# EAGLE library part STM32F778AIY6TR (library circuit_tree)
IC
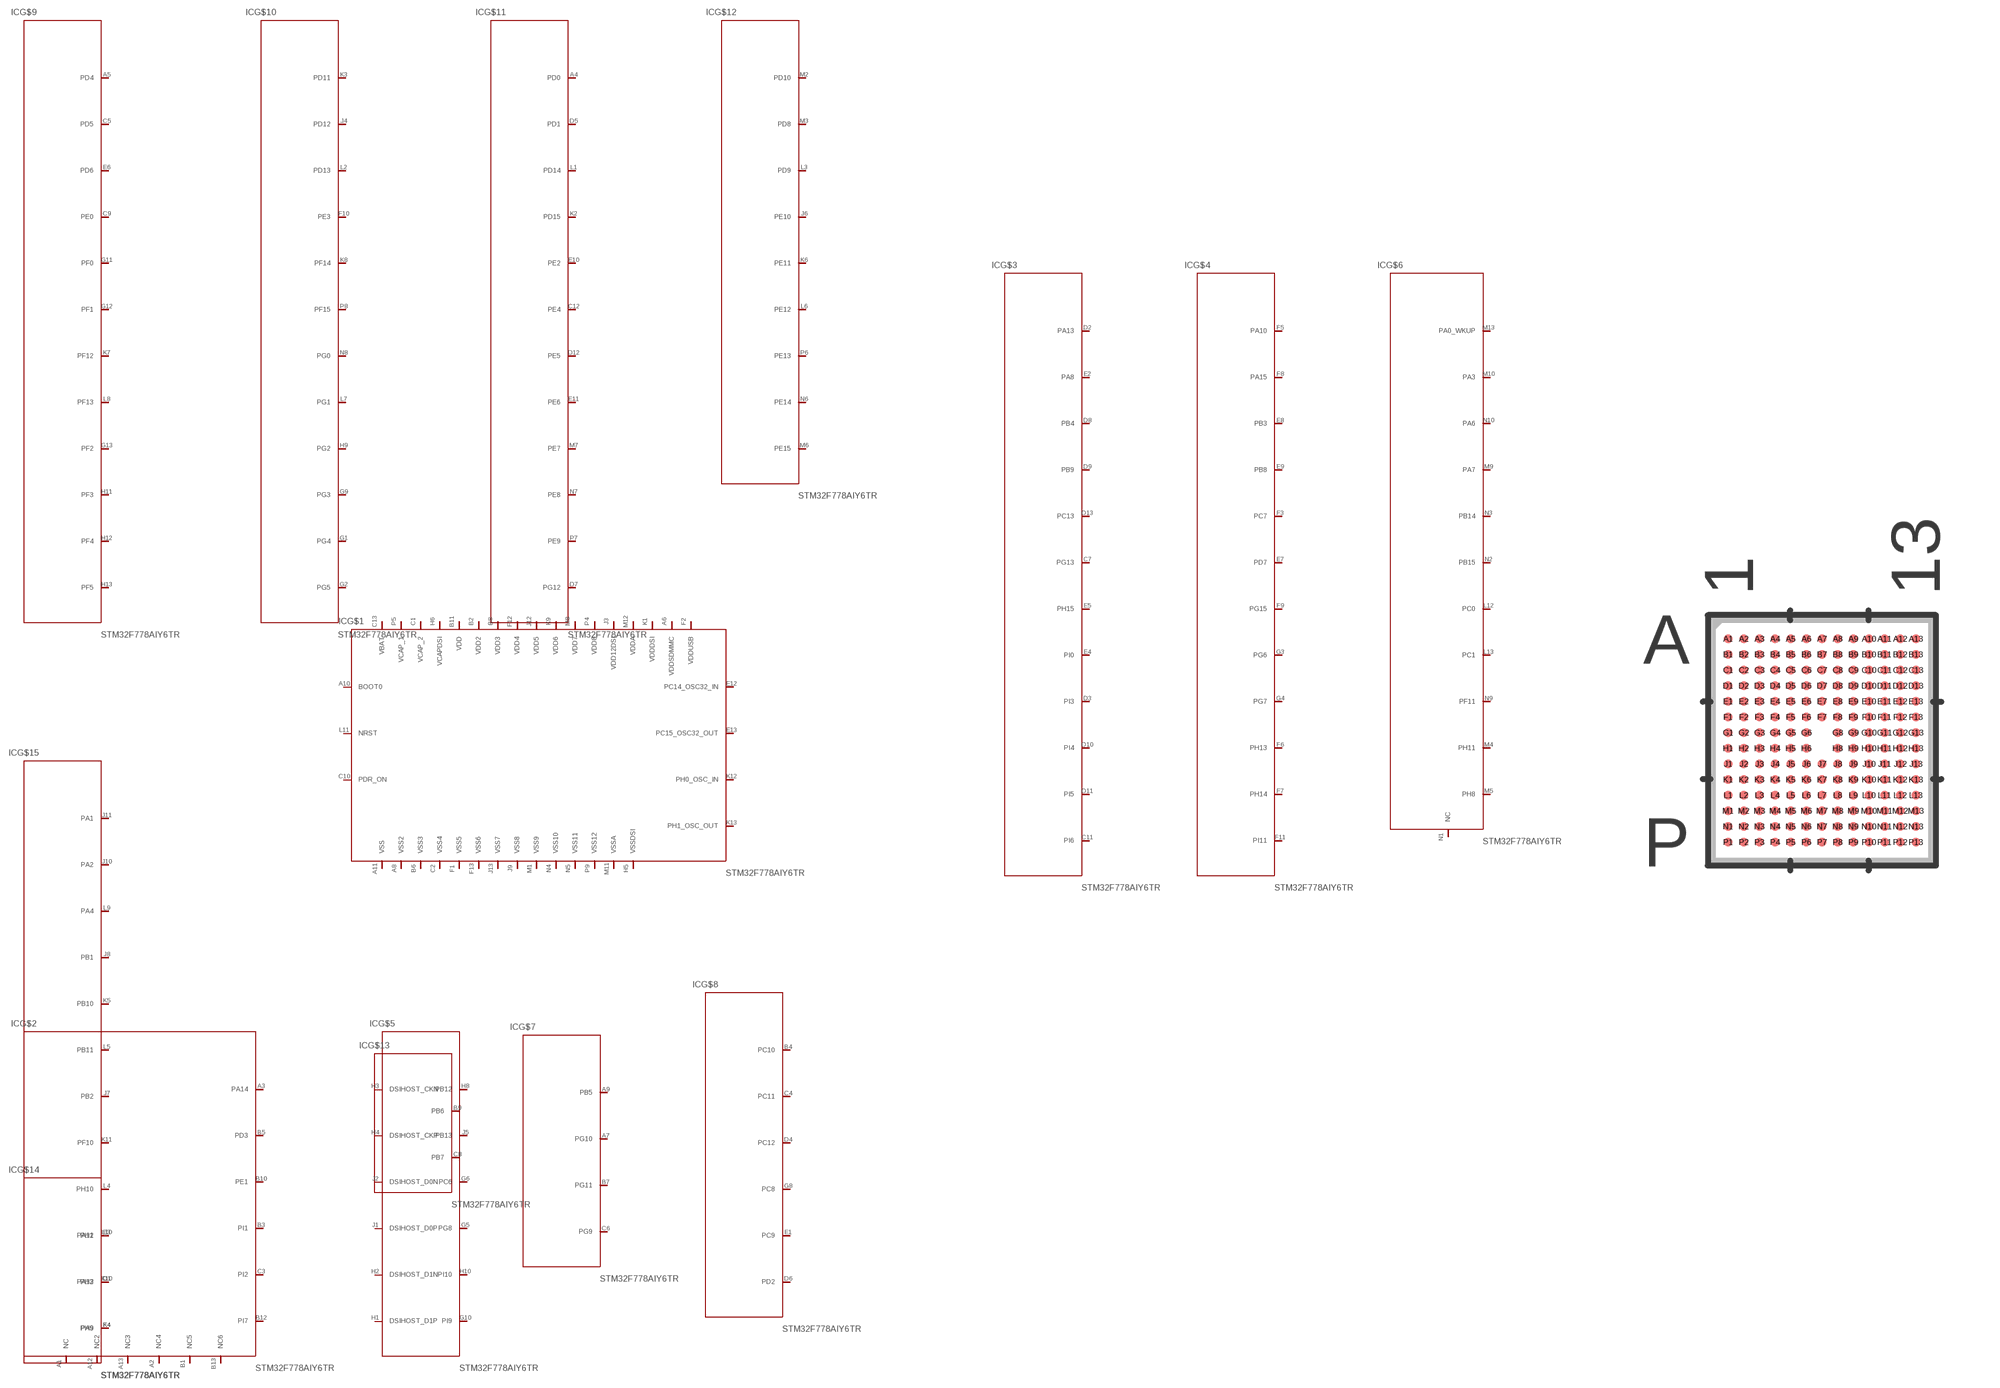
[diagram p6: symbol with the pads of WLCSP180; footprint WLCSP180]

Designator prefix IC; gates G$1=STM32F778AIY6TR G$2=STM32F778AIY6TR2 G$3=STM32F778AIY6TR3 G$4=STM32F778AIY6TR4 G$5=STM32F778AIY6TR5 G$6=STM32F778AIY6TR6 G$7=STM32F778AIY6TR7 G$8=STM32F778AIY6TR8 G$9=STM32F778AIY6TR9 G$10=STM32F778AIY6TR10 G$11=STM32F778AIY6TR11 G$12=STM32F778AIY6TR12 G$13=STM32F778AIY6TR13 G$14=STM32F778AIY6TR14 G$15=STM32F778AIY6TR15

## STM32F778AIY6TR  [WLCSP180]
A1  G$2:NC  pas
A2  G$2:NC4  pas
A3  G$2:PA14  pas
A4  G$11:PD0  pas
A5  G$9:PD4  pas
A6  G$1:VDDSDMMC  pas
A7  G$7:PG10  pas
A8  G$1:VSS2  pas
A9  G$7:PB5  pas
A10  G$1:BOOT0  pas
A11  G$1:VSS  pas
A12  G$2:NC2  pas
A13  G$2:NC3  pas
B1  G$2:NC5  pas
B2  G$1:VDD2  pas
B3  G$2:PI1  pas
B4  G$8:PC10  pas
B5  G$2:PD3  pas
B6  G$1:VSS3  pas
B7  G$7:PG11  pas
B8  G$1:VDD3  pas
B9  G$13:PB6  pas
B10  G$2:PE1  pas
B11  G$1:VDD  pas
B12  G$2:PI7  pas
B13  G$2:NC6  pas
C1  G$1:VCAP_2  pas
C2  G$1:VSS4  pas
C3  G$2:PI2  pas
C4  G$8:PC11  pas
C5  G$9:PD5  pas
C6  G$7:PG9  pas
C7  G$3:PG13  pas
C8  G$13:PB7  pas
C9  G$9:PE0  pas
C10  G$1:PDR_ON  pas
C11  G$3:PI6  pas
C12  G$11:PE4  pas
C13  G$1:VBAT  pas
D1  G$14:PA12  pas
D2  G$3:PA13  pas
D3  G$3:PI3  pas
D4  G$8:PC12  pas
D5  G$11:PD1  pas
D6  G$8:PD2  pas
D7  G$11:PG12  pas
D8  G$3:PB4  pas
D9  G$3:PB9  pas
D10  G$3:PI4  pas
D11  G$3:PI5  pas
D12  G$11:PE5  pas
D13  G$3:PC13  pas
E1  G$8:PC9  pas
E2  G$3:PA8  pas
E3  G$14:PA11  pas
E4  G$3:PI0  pas
E5  G$3:PH15  pas
E6  G$9:PD6  pas
E7  G$4:PD7  pas
E8  G$4:PB3  pas
E9  G$4:PB8  pas
E10  G$11:PE2  pas
E11  G$11:PE6  pas
E12  G$1:PC14_OSC32_IN  pas
E13  G$1:PC15_OSC32_OUT  pas
F1  G$1:VSS5  pas
F2  G$1:VDDUSB  pas
F3  G$4:PC7  pas
F4  G$14:PA9  pas
F5  G$4:PA10  pas
F6  G$4:PH13  pas
F7  G$4:PH14  pas
F8  G$4:PA15  pas
F9  G$4:PG15  pas
F10  G$10:PE3  pas
F11  G$4:PI11  pas
F12  G$1:VDD4  pas
F13  G$1:VSS6  pas
G1  G$10:PG4  pas
G2  G$10:PG5  pas
G3  G$4:PG6  pas
G4  G$4:PG7  pas
G5  G$5:PG8  pas
G6  G$5:PC6  pas
G8  G$8:PC8  pas
G9  G$10:PG3  pas
G10  G$5:PI9  pas
G11  G$9:PF0  pas
G12  G$9:PF1  pas
G13  G$9:PF2  pas
H1  G$5:DSIHOST_D1P  pas
H2  G$5:DSIHOST_D1N  pas
H3  G$5:DSIHOST_CKN  pas
H4  G$5:DSIHOST_CKP  pas
H5  G$1:VSSDSI  pas
H6  G$1:VCAPDSI  pas
H8  G$5:PB12  pas
H9  G$10:PG2  pas
H10  G$5:PI10  pas
H11  G$9:PF3  pas
H12  G$9:PF4  pas
H13  G$9:PF5  pas
J1  G$5:DSIHOST_D0P  pas
J2  G$5:DSIHOST_D0N  pas
J3  G$1:VDD12DSI  pas
J4  G$10:PD12  pas
J5  G$5:PB13  pas
J6  G$12:PE10  pas
J7  G$15:PB2  pas
J8  G$15:PB1  pas
J9  G$1:VSS8  pas
J10  G$15:PA2  pas
J11  G$15:PA1  pas
J12  G$1:VDD5  pas
J13  G$1:VSS7  pas
K1  G$1:VDDDSI  pas
K2  G$11:PD15  pas
K3  G$10:PD11  pas
K4  G$15:PH9  pas
K5  G$15:PB10  pas
K6  G$12:PE11  pas
K7  G$9:PF12  pas
K8  G$10:PF14  pas
K9  G$1:VDD6  pas
K10  G$15:PH3  pas
K11  G$15:PF10  pas
K12  G$1:PH0_OSC_IN  pas
K13  G$1:PH1_OSC_OUT  pas
L1  G$11:PD14  pas
L2  G$10:PD13  pas
L3  G$12:PD9  pas
L4  G$15:PH10  pas
L5  G$15:PB11  pas
L6  G$12:PE12  pas
L7  G$10:PG1  pas
L8  G$9:PF13  pas
L9  G$15:PA4  pas
L10  G$15:PH2  pas
L11  G$1:NRST  pas
L12  G$6:PC0  pas
L13  G$6:PC1  pas
M1  G$1:VSS9  pas
M2  G$12:PD10  pas
M3  G$12:PD8  pas
M4  G$6:PH11  pas
M5  G$6:PH8  pas
M6  G$12:PE15  pas
M7  G$11:PE7  pas
M8  G$1:VDD7  pas
M9  G$6:PA7  pas
M10  G$6:PA3  pas
M11  G$1:VSSA  pas
M12  G$1:VDDA  pas
M13  G$6:PA0_WKUP  pas
N1  G$6:NC  pas
N2  G$6:PB15  pas
N3  G$6:PB14  pas
N4  G$1:VSS10  pas
N5  G$1:VSS11  pas
N6  G$12:PE14  pas
N7  G$11:PE8  pas
N8  G$10:PG0  pas
N9  G$6:PF11  pas
N10  G$6:PA6  pas
P4  G$1:VDD8  pas
P5  G$1:VCAP_1  pas
P6  G$12:PE13  pas
P7  G$11:PE9  pas
P8  G$10:PF15  pas
P9  G$1:VSS12  pas

## Footprint WLCSP180 (pad centres in mm)
smd 0.225 x 0.225: A1 -2.4,2.6; A2 -2,2.6; A3 -1.6,2.6; A4 -1.2,2.6; A5 -0.8,2.6; A6 -0.4,2.6; A7 0,2.6; A8 0.4,2.6; A9 0.8,2.6; A10 1.2,2.6; A11 1.6,2.6; A12 2,2.6; A13 2.4,2.6; B1 -2.4,2.2; B2 -2,2.2; B3 -1.6,2.2; B4 -1.2,2.2; B5 -0.8,2.2; B6 -0.4,2.2; B7 0,2.2; B8 0.4,2.2; B9 0.8,2.2; B10 1.2,2.2; B11 1.6,2.2; B12 2,2.2; B13 2.4,2.2; C1 -2.4,1.8; C2 -2,1.8; C3 -1.6,1.8; C4 -1.2,1.8; C5 -0.8,1.8; C6 -0.4,1.8; C7 0,1.8; C8 0.4,1.8; C9 0.8,1.8; C10 1.2,1.8; C11 1.6,1.8; C12 2,1.8; C13 2.4,1.8; D1 -2.4,1.4; D2 -2,1.4; D3 -1.6,1.4; D4 -1.2,1.4; D5 -0.8,1.4; D6 -0.4,1.4; D7 0,1.4; D8 0.4,1.4; D9 0.8,1.4; D10 1.2,1.4; D11 1.6,1.4; D12 2,1.4; D13 2.4,1.4; E1 -2.4,1; E2 -2,1; E3 -1.6,1; E4 -1.2,1; E5 -0.8,1; E6 -0.4,1; E7 0,1; E8 0.4,1; E9 0.8,1; E10 1.2,1; E11 1.6,1; E12 2,1; E13 2.4,1; F1 -2.4,0.6; F2 -2,0.6; F3 -1.6,0.6; F4 -1.2,0.6; F5 -0.8,0.6; F6 -0.4,0.6; F7 0,0.6; F8 0.4,0.6; F9 0.8,0.6; F10 1.2,0.6; F11 1.6,0.6; F12 2,0.6; F13 2.4,0.6; G1 -2.4,0.2; G2 -2,0.2; G3 -1.6,0.2; G4 -1.2,0.2; G5 -0.8,0.2; G6 -0.4,0.2; G8 0.4,0.2; G9 0.8,0.2; G10 1.2,0.2; G11 1.6,0.2; G12 2,0.2; G13 2.4,0.2; H1 -2.4,-0.2; H2 -2,-0.2; H3 -1.6,-0.2; H4 -1.2,-0.2; H5 -0.8,-0.2; H6 -0.4,-0.2; H8 0.4,-0.2; H9 0.8,-0.2; H10 1.2,-0.2; H11 1.6,-0.2; H12 2,-0.2; H13 2.4,-0.2; J1 -2.4,-0.6; J2 -2,-0.6; J3 -1.6,-0.6; J4 -1.2,-0.6; J5 -0.8,-0.6; J6 -0.4,-0.6; J7 0,-0.6; J8 0.4,-0.6; J9 0.8,-0.6; J10 1.2,-0.6; J11 1.6,-0.6; J12 2,-0.6; J13 2.4,-0.6; K1 -2.4,-1; K2 -2,-1; K3 -1.6,-1; K4 -1.2,-1; K5 -0.8,-1; K6 -0.4,-1; K7 0,-1; K8 0.4,-1; K9 0.8,-1; K10 1.2,-1; K11 1.6,-1; K12 2,-1; K13 2.4,-1; L1 -2.4,-1.4; L2 -2,-1.4; L3 -1.6,-1.4; L4 -1.2,-1.4; L5 -0.8,-1.4; L6 -0.4,-1.4; L7 0,-1.4; L8 0.4,-1.4; L9 0.8,-1.4; L10 1.2,-1.4; L11 1.6,-1.4; L12 2,-1.4; L13 2.4,-1.4; M1 -2.4,-1.8; M2 -2,-1.8; M3 -1.6,-1.8; M4 -1.2,-1.8; M5 -0.8,-1.8; M6 -0.4,-1.8; M7 0,-1.8; M8 0.4,-1.8; M9 0.8,-1.8; M10 1.2,-1.8; M11 1.6,-1.8; M12 2,-1.8; M13 2.4,-1.8; N1 -2.4,-2.2; N2 -2,-2.2; N3 -1.6,-2.2; N4 -1.2,-2.2; N5 -0.8,-2.2; N6 -0.4,-2.2; N7 0,-2.2; N8 0.4,-2.2; N9 0.8,-2.2; N10 1.2,-2.2; N11 1.6,-2.2; N12 2,-2.2; N13 2.4,-2.2; P1 -2.4,-2.6; P2 -2,-2.6; P3 -1.6,-2.6; P4 -1.2,-2.6; P5 -0.8,-2.6; P6 -0.4,-2.6; P7 0,-2.6; P8 0.4,-2.6; P9 0.8,-2.6; P10 1.2,-2.6; P11 1.6,-2.6; P12 2,-2.6; P13 2.4,-2.6